# Altium schematic symbol library 51.SchLib: 3 symbols
Pins are listed as number, name and electrical type; pins without a type are passive.

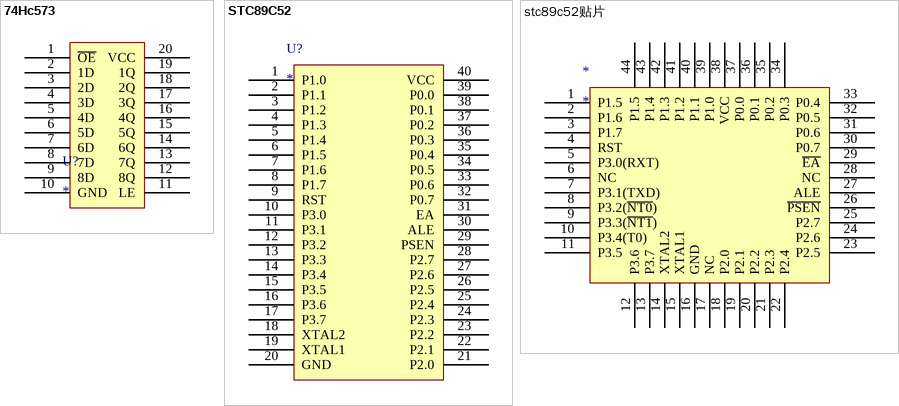
[diagram p0: symbols 74Hc573 to stc89c52贴片]

## 74Hc573
designator U?
footprint 74Hc573
pins: 1 ~{OE}, 2 1D, 3 2D, 4 3D, 5 4D, 6 5D, 7 6D, 8 7D, 9 8D, 10 GND, 11 LE, 12 8Q, 13 7Q, 14 6Q, 15 5Q, 16 4Q, 17 3Q, 18 2Q, 19 1Q, 20 VCC

## STC89C52
designator U?
footprint DIP40
footprint 51贴片
pins: 1 P1.0, 2 P1.1, 3 P1.2, 4 P1.3, 5 P1.4, 6 P1.5, 7 P1.6, 8 P1.7, 9 RST, 10 P3.0, 11 P3.1, 12 P3.2, 13 P3.3, 14 P3.4, 15 P3.5, 16 P3.6, 17 P3.7, 18 XTAL2, 19 XTAL1, 20 GND, 21 P2.0, 22 P2.1, 23 P2.2, 24 P2.3, 25 P2.4, 26 P2.5, 27 P2.6, 28 P2.7, 29 PSEN, 30 ALE, 31 EA, 32 P0.7, 33 P0.6, 34 P0.5, 35 P0.4, 36 P0.3, 37 P0.2, 38 P0.1, 39 P0.0, 40 VCC

## stc89c52贴片
designator *
footprint 51贴片
pins: 1 P1.5, 2 P1.6, 3 P1.7, 4 RST, 5 P3.0(RXT), 6 NC, 7 P3.1(TXD), 8 P3.2(~{NT0}), 9 P3.3(~{NT1}), 10 P3.4(T0), 11 P3.5, 12 P3.6, 13 P3.7, 14 XTAL2, 15 XTAL1, 16 GND, 17 NC, 18 P2.0, 19 P2.1, 20 P2.2, 21 P2.3, 22 P2.4, 23 P2.5, 24 P2.6, 25 P2.7, 26 ~{PSEN}, 27 ALE, 28 NC, 29 ~{EA}, 30 P0.7, 31 P0.6, 32 P0.5, 33 P0.4, 34 P0.3, 35 P0.2, 36 P0.1, 37 P0.0, 38 VCC, 39 P1.0, 40 P1.1, 41 P1.2, 42 P1.3, 43 P1.4, 44 P1.5